# Altium schematic symbol library WR-TBL_Rising Cage Clamp.SchLib: 435 symbols (part 7 of 7)
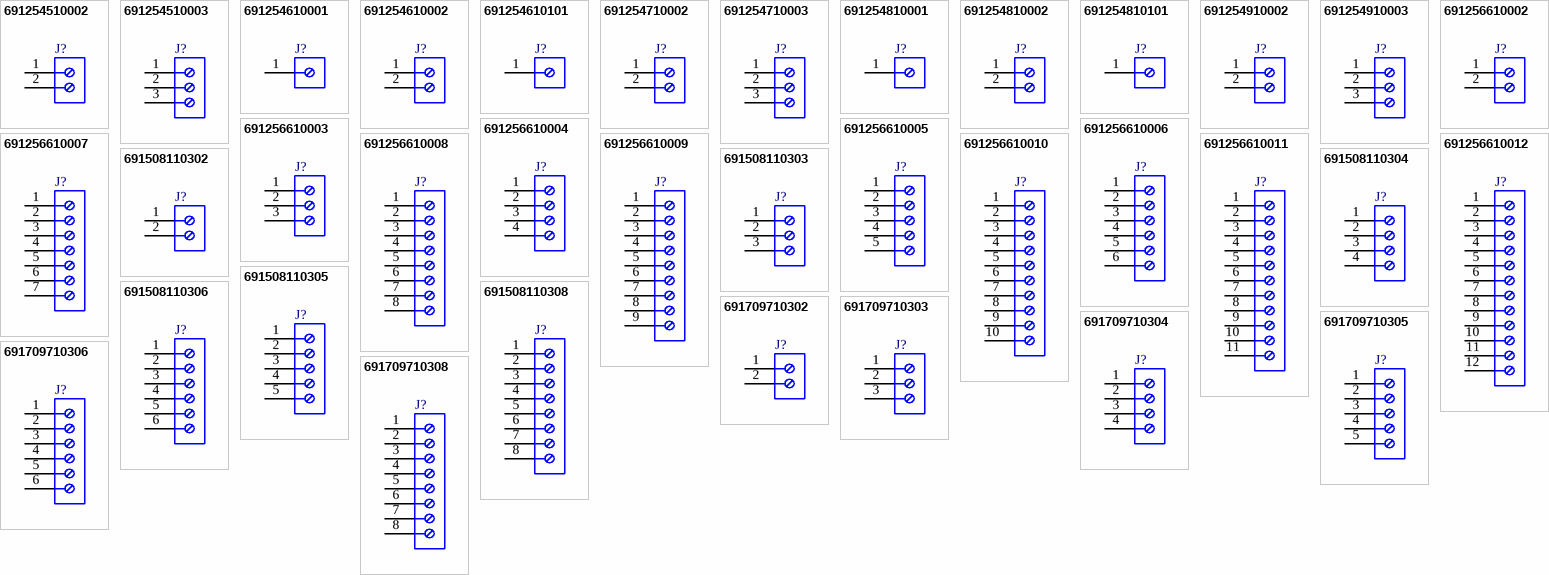
[diagram p16: symbols 691254510002 to 691709710308]

## 691256610003
designator J?
WR-TBL Serie 2566 Horizontal Entry, Rising Cage Clamp, pitch 10.16mm, 3p; Part Number: 691256610003; Compliance: Lead free / RoHS; Modularity: No; PCB/Cable/Panel: PCB; Pin Number: 3; Rated Current [UL]: 40A; Working Voltage [UL]: 300VAC; ComponentLink1Description: Manufacturer; ComponentLink1URL: http://www.we-online.de; ComponentLink2URL: https://katalog.we-online.de/em/datasheet/691256610003.pdf; ComponentLink2Description: Datasheet; Mounting Technology: THT; Packaging: Box; Operating Temperature: -30 to +120degC; Pitch: 10.16mm; Published Date: October 2019; Type: Horizontal; Publisher: Wurth Elektronik; Application: Rising Cage Clamp
footprint 691256610003
pins: 1, 2, 3

## 691256610004
designator J?
WR-TBL Serie 2566 Horizontal Entry, Rising Cage Clamp, pitch 10.16mm, 4p; Part Number: 691256610004; Compliance: Lead free / RoHS; Modularity: No; PCB/Cable/Panel: PCB; Pin Number: 4; Rated Current [UL]: 40A; Working Voltage [UL]: 300VAC; ComponentLink1Description: Manufacturer; ComponentLink1URL: http://www.we-online.de; ComponentLink2URL: https://katalog.we-online.de/em/datasheet/691256610004.pdf; ComponentLink2Description: Datasheet; Mounting Technology: THT; Packaging: Box; Operating Temperature: -30 to +120degC; Pitch: 10.16mm; Published Date: October 2019; Type: Horizontal; Publisher: Wurth Elektronik; Application: Rising Cage Clamp
footprint 691256610004
pins: 1, 2, 3, 4

## 691256610005
designator J?
WR-TBL Serie 2566 Horizontal Entry, Rising Cage Clamp, pitch 10.16mm, 5p; Part Number: 691256610005; Compliance: Lead free / RoHS; Modularity: No; PCB/Cable/Panel: PCB; Pin Number: 5; Rated Current [UL]: 40A; Working Voltage [UL]: 300VAC; ComponentLink1Description: Manufacturer; ComponentLink1URL: http://www.we-online.de; ComponentLink2URL: https://katalog.we-online.de/em/datasheet/691256610005.pdf; ComponentLink2Description: Datasheet; Mounting Technology: THT; Packaging: Box; Operating Temperature: -30 to +120degC; Pitch: 10.16mm; Published Date: October 2019; Type: Horizontal; Publisher: Wurth Elektronik; Application: Rising Cage Clamp
footprint 691256610005
pins: 1, 2, 3, 4, 5

## 691256610006
designator J?
WR-TBL Serie 2566 Horizontal Entry, Rising Cage Clamp, pitch 10.16mm, 6p; Part Number: 691256610006; Compliance: Lead free / RoHS; Modularity: No; PCB/Cable/Panel: PCB; Pin Number: 6; Rated Current [UL]: 40A; Working Voltage [UL]: 300VAC; ComponentLink1Description: Manufacturer; ComponentLink1URL: http://www.we-online.de; ComponentLink2URL: https://katalog.we-online.de/em/datasheet/691256610006.pdf; ComponentLink2Description: Datasheet; Mounting Technology: THT; Packaging: Box; Operating Temperature: -30 to +120degC; Pitch: 10.16mm; Published Date: October 2019; Type: Horizontal; Publisher: Wurth Elektronik; Application: Rising Cage Clamp
footprint 691256610006
pins: 1, 2, 3, 4, 5, 6

## 691256610007
designator J?
WR-TBL Serie 2566 Horizontal Entry, Rising Cage Clamp, pitch 10.16mm, 7p; Part Number: 691256610007; Compliance: Lead free / RoHS; Modularity: No; PCB/Cable/Panel: PCB; Pin Number: 7; Rated Current [UL]: 40A; Working Voltage [UL]: 300VAC; ComponentLink1Description: Manufacturer; ComponentLink1URL: http://www.we-online.de; ComponentLink2URL: https://katalog.we-online.de/em/datasheet/691256610007.pdf; ComponentLink2Description: Datasheet; Mounting Technology: THT; Packaging: Box; Operating Temperature: -30 to +120degC; Pitch: 10.16mm; Published Date: October 2019; Type: Horizontal; Publisher: Wurth Elektronik; Application: Rising Cage Clamp
footprint 691256610007
pins: 1, 2, 3, 4, 5, 6, 7

## 691256610008
designator J?
WR-TBL Serie 2566 Horizontal Entry, Rising Cage Clamp, pitch 10.16mm, 8p; Part Number: 691256610008; Compliance: Lead free / RoHS; Modularity: No; PCB/Cable/Panel: PCB; Pin Number: 8; Rated Current [UL]: 40A; Working Voltage [UL]: 300VAC; ComponentLink1Description: Manufacturer; ComponentLink1URL: http://www.we-online.de; ComponentLink2URL: https://katalog.we-online.de/em/datasheet/691256610008.pdf; ComponentLink2Description: Datasheet; Mounting Technology: THT; Packaging: Box; Operating Temperature: -30 to +120degC; Pitch: 10.16mm; Published Date: October 2019; Type: Horizontal; Publisher: Wurth Elektronik; Application: Rising Cage Clamp
footprint 691256610008
pins: 1, 2, 3, 4, 5, 6, 7, 8

## 691256610009
designator J?
WR-TBL Serie 2566 Horizontal Entry, Rising Cage Clamp, pitch 10.16mm, 9p; Part Number: 691256610009; Compliance: Lead free / RoHS; Modularity: No; PCB/Cable/Panel: PCB; Pin Number: 9; Rated Current [UL]: 40A; Working Voltage [UL]: 300VAC; ComponentLink1Description: Manufacturer; ComponentLink1URL: http://www.we-online.de; ComponentLink2URL: https://katalog.we-online.de/em/datasheet/691256610009.pdf; ComponentLink2Description: Datasheet; Mounting Technology: THT; Packaging: Box; Operating Temperature: -30 to +120degC; Pitch: 10.16mm; Published Date: October 2019; Type: Horizontal; Publisher: Wurth Elektronik; Application: Rising Cage Clamp
footprint 691256610009
pins: 1, 2, 3, 4, 5, 6, 7, 8, 9

## 691256610010
designator J?
WR-TBL Serie 2566 Horizontal Entry, Rising Cage Clamp, pitch 10.16mm, 10p; Part Number: 691256610010; Compliance: Lead free / RoHS; Modularity: No; PCB/Cable/Panel: PCB; Pin Number: 10; Rated Current [UL]: 40A; Working Voltage [UL]: 300VAC; ComponentLink1Description: Manufacturer; ComponentLink1URL: http://www.we-online.de; ComponentLink2URL: https://katalog.we-online.de/em/datasheet/691256610010.pdf; ComponentLink2Description: Datasheet; Mounting Technology: THT; Packaging: Box; Operating Temperature: -30 to +120degC; Pitch: 10.16mm; Published Date: October 2019; Type: Horizontal; Publisher: Wurth Elektronik; Application: Rising Cage Clamp
footprint 691256610010
pins: 1, 2, 3, 4, 5, 6, 7, 8, 9, 10

## 691256610011
designator J?
WR-TBL Serie 2566 Horizontal Entry, Rising Cage Clamp, pitch 10.16mm, 11p; Part Number: 691256610011; Compliance: Lead free / RoHS; Modularity: No; PCB/Cable/Panel: PCB; Pin Number: 11; Rated Current [UL]: 40A; Working Voltage [UL]: 300VAC; ComponentLink1Description: Manufacturer; ComponentLink1URL: http://www.we-online.de; ComponentLink2URL: https://katalog.we-online.de/em/datasheet/691256610011.pdf; ComponentLink2Description: Datasheet; Mounting Technology: THT; Packaging: Box; Operating Temperature: -30 to +120degC; Pitch: 10.16mm; Published Date: October 2019; Type: Horizontal; Publisher: Wurth Elektronik; Application: Rising Cage Clamp
footprint 691256610011
pins: 1, 2, 3, 4, 5, 6, 7, 8, 9, 10, 11

## 691256610012
designator J?
WR-TBL Serie 2566 Horizontal Entry, Rising Cage Clamp, pitch 10.16mm, 12p; Part Number: 691256610012; Compliance: Lead free / RoHS; Modularity: No; PCB/Cable/Panel: PCB; Pin Number: 12; Rated Current [UL]: 40A; Working Voltage [UL]: 300VAC; ComponentLink1Description: Manufacturer; ComponentLink1URL: http://www.we-online.de; ComponentLink2URL: https://katalog.we-online.de/em/datasheet/691256610012.pdf; ComponentLink2Description: Datasheet; Mounting Technology: THT; Packaging: Box; Operating Temperature: -30 to +120degC; Pitch: 10.16mm; Published Date: October 2019; Type: Horizontal; Publisher: Wurth Elektronik; Application: Rising Cage Clamp
footprint 691256610012
pins: 1, 2, 3, 4, 5, 6, 7, 8, 9, 10, 11, 12

## 691508110302
designator J?
WR-TBL Serie 5081 Horizontal Entry SMT, Rising Cage Clamp, pitch 3.5mm, 2p; Part Number: 691508110302; Compliance: RoHS; Modularity: No; PCB/Cable/Panel: PCB; Pin Number: 2; Rated Current [UL]: 10A; Working Voltage [UL]: 300VAC; ComponentLink1Description: Manufacturer; ComponentLink1URL: http://www.we-online.de; ComponentLink2URL: https://katalog.we-online.de/em/datasheet/691508110302.pdf; ComponentLink2Description: Datasheet; Mounting Technology: SMT; Packaging: Tape and Reel; Operating Temperature: -40 to +130degC; Pitch: 3.5mm; Published Date: October 2019; Type: Horizontal; Publisher: Wurth Elektronik; Application: Rising Cage Clamp
footprint 691508110302
pins: 1, 2

## 691508110303
designator J?
WR-TBL Serie 5081 Horizontal Entry SMT, Rising Cage Clamp, pitch 3.5mm, 3p; Part Number: 691508110303; Compliance: RoHS; Modularity: No; PCB/Cable/Panel: PCB; Pin Number: 3; Rated Current [UL]: 10A; Working Voltage [UL]: 300VAC; ComponentLink1Description: Manufacturer; ComponentLink1URL: http://www.we-online.de; ComponentLink2URL: https://katalog.we-online.de/em/datasheet/691508110303.pdf; ComponentLink2Description: Datasheet; Mounting Technology: SMT; Packaging: Tape and Reel; Operating Temperature: -40 to +130degC; Pitch: 3.5mm; Published Date: October 2019; Type: Horizontal; Publisher: Wurth Elektronik; Application: Rising Cage Clamp
footprint 691508110303
pins: 1, 2, 3

## 691508110304
designator J?
WR-TBL Serie 5081 Horizontal Entry SMT, Rising Cage Clamp, pitch 3.5mm, 4p; Part Number: 691508110304; Compliance: RoHS; Modularity: No; PCB/Cable/Panel: PCB; Pin Number: 4; Rated Current [UL]: 10A; Working Voltage [UL]: 300VAC; ComponentLink1Description: Manufacturer; ComponentLink1URL: http://www.we-online.de; ComponentLink2URL: https://katalog.we-online.de/em/datasheet/691508110304.pdf; ComponentLink2Description: Datasheet; Mounting Technology: SMT; Packaging: Tape and Reel; Operating Temperature: -40 to +130degC; Pitch: 3.5mm; Published Date: October 2019; Type: Horizontal; Publisher: Wurth Elektronik; Application: Rising Cage Clamp
footprint 691508110304
pins: 1, 2, 3, 4

## 691508110305
designator J?
WR-TBL Serie 5081 Horizontal Entry SMT, Rising Cage Clamp, pitch 3.5mm, 5p; Part Number: 691508110305; Compliance: RoHS; Modularity: No; PCB/Cable/Panel: PCB; Pin Number: 5; Rated Current [UL]: 10A; Working Voltage [UL]: 300VAC; ComponentLink1Description: Manufacturer; ComponentLink1URL: http://www.we-online.de; ComponentLink2URL: https://katalog.we-online.de/em/datasheet/691508110305.pdf; ComponentLink2Description: Datasheet; Mounting Technology: SMT; Packaging: Tape and Reel; Operating Temperature: -40 to +130degC; Pitch: 3.5mm; Published Date: October 2019; Type: Horizontal; Publisher: Wurth Elektronik; Application: Rising Cage Clamp
footprint 691508110305
pins: 1, 2, 3, 4, 5

## 691508110306
designator J?
WR-TBL Serie 5081 Horizontal Entry SMT, Rising Cage Clamp, pitch 3.5mm, 6p; Part Number: 691508110306; Compliance: RoHS; Modularity: No; PCB/Cable/Panel: PCB; Pin Number: 6; Rated Current [UL]: 10A; Working Voltage [UL]: 300VAC; ComponentLink1Description: Manufacturer; ComponentLink1URL: http://www.we-online.de; ComponentLink2URL: https://katalog.we-online.de/em/datasheet/691508110306.pdf; ComponentLink2Description: Datasheet; Mounting Technology: SMT; Packaging: Tape and Reel; Operating Temperature: -40 to +130degC; Pitch: 3.5mm; Published Date: October 2019; Type: Horizontal; Publisher: Wurth Elektronik; Application: Rising Cage Clamp
footprint 691508110306
pins: 1, 2, 3, 4, 5, 6

## 691508110308
designator J?
WR-TBL Serie 5081 Horizontal Entry SMT, Rising Cage Clamp, pitch 3.5mm, 8p; Part Number: 691508110308; Compliance: RoHS; Modularity: No; PCB/Cable/Panel: PCB; Pin Number: 8; Rated Current [UL]: 10A; Working Voltage [UL]: 300VAC; ComponentLink1Description: Manufacturer; ComponentLink1URL: http://www.we-online.de; ComponentLink2URL: https://katalog.we-online.de/em/datasheet/691508110308.pdf; ComponentLink2Description: Datasheet; Mounting Technology: SMT; Packaging: Tape and Reel; Operating Temperature: -40 to +130degC; Pitch: 3.5mm; Published Date: October 2019; Type: Horizontal; Publisher: Wurth Elektronik; Application: Rising Cage Clamp
footprint 691508110308
pins: 1, 2, 3, 4, 5, 6, 7, 8

## 691709710302
designator J?
WR-TBL Serie 7097 Horizontal Entry SMT, Rising Cage Clamp, pitch 5mm, 2p; Part Number: 691709710302; Compliance: Lead free / RoHS; Modularity: No; PCB/Cable/Panel: PCB; Pin Number: 2; Rated Current [UL]: 6A; Working Voltage [UL]: 300VAC; ComponentLink1Description: Manufacturer; ComponentLink1URL: http://www.we-online.de; ComponentLink2URL: https://katalog.we-online.de/em/datasheet/691709710302.pdf; ComponentLink2Description: Datasheet; Mounting Technology: SMT; Packaging: Tape and Reel; Operating Temperature: -40 to +130degC; Pitch: 5mm; Published Date: October 2019; Type: Horizontal; Publisher: Wurth Elektronik; Application: Rising Cage Clamp
footprint 691709710302
pins: 1, 2

## 691709710303
designator J?
WR-TBL Serie 7097 Horizontal Entry SMT, Rising Cage Clamp, pitch 5mm, 3p; Part Number: 691709710303; Compliance: Lead free / RoHS; Modularity: No; PCB/Cable/Panel: PCB; Pin Number: 3; Rated Current [UL]: 6A; Working Voltage [UL]: 300VAC; ComponentLink1Description: Manufacturer; ComponentLink1URL: http://www.we-online.de; ComponentLink2URL: https://katalog.we-online.de/em/datasheet/691709710303.pdf; ComponentLink2Description: Datasheet; Mounting Technology: SMT; Packaging: Tape and Reel; Operating Temperature: -40 to +130degC; Pitch: 5mm; Published Date: October 2019; Type: Horizontal; Publisher: Wurth Elektronik; Application: Rising Cage Clamp
footprint 691709710303
pins: 1, 2, 3

## 691709710304
designator J?
WR-TBL Serie 7097 Horizontal Entry SMT, Rising Cage Clamp, pitch 5mm, 4p; Part Number: 691709710304; Compliance: Lead free / RoHS; Modularity: No; PCB/Cable/Panel: PCB; Pin Number: 4; Rated Current [UL]: 6A; Working Voltage [UL]: 300VAC; ComponentLink1Description: Manufacturer; ComponentLink1URL: http://www.we-online.de; ComponentLink2URL: https://katalog.we-online.de/em/datasheet/691709710304.pdf; ComponentLink2Description: Datasheet; Mounting Technology: SMT; Packaging: Tape and Reel; Operating Temperature: -40 to +130degC; Pitch: 5mm; Published Date: October 2019; Type: Horizontal; Publisher: Wurth Elektronik; Application: Rising Cage Clamp
footprint 691709710304
pins: 1, 2, 3, 4

## 691709710305
designator J?
WR-TBL Serie 7097 Horizontal Entry SMT, Rising Cage Clamp, pitch 5mm, 5p; Part Number: 691709710305; Compliance: Lead free / RoHS; Modularity: No; PCB/Cable/Panel: PCB; Pin Number: 5; Rated Current [UL]: 6A; Working Voltage [UL]: 300VAC; ComponentLink1Description: Manufacturer; ComponentLink1URL: http://www.we-online.de; ComponentLink2URL: https://katalog.we-online.de/em/datasheet/691709710305.pdf; ComponentLink2Description: Datasheet; Mounting Technology: SMT; Packaging: Tape and Reel; Operating Temperature: -40 to +130degC; Pitch: 5mm; Published Date: October 2019; Type: Horizontal; Publisher: Wurth Elektronik; Application: Rising Cage Clamp
footprint 691709710305
pins: 1, 2, 3, 4, 5

## 691709710306
designator J?
WR-TBL Serie 7097 Horizontal Entry SMT, Rising Cage Clamp, pitch 5mm, 6p; Part Number: 691709710306; Compliance: Lead free / RoHS; Modularity: No; PCB/Cable/Panel: PCB; Pin Number: 6; Rated Current [UL]: 6A; Working Voltage [UL]: 300VAC; ComponentLink1Description: Manufacturer; ComponentLink1URL: http://www.we-online.de; ComponentLink2URL: https://katalog.we-online.de/em/datasheet/691709710306.pdf; ComponentLink2Description: Datasheet; Mounting Technology: SMT; Packaging: Tape and Reel; Operating Temperature: -40 to +130degC; Pitch: 5mm; Published Date: October 2019; Type: Horizontal; Publisher: Wurth Elektronik; Application: Rising Cage Clamp
footprint 691709710306
pins: 1, 2, 3, 4, 5, 6

## 691709710308
designator J?
WR-TBL Serie 7097 Horizontal Entry SMT, Rising Cage Clamp, pitch 5mm, 8p; Part Number: 691709710308; Compliance: Lead free / RoHS; Modularity: No; PCB/Cable/Panel: PCB; Pin Number: 8; Rated Current [UL]: 6A; Working Voltage [UL]: 300VAC; ComponentLink1Description: Manufacturer; ComponentLink1URL: http://www.we-online.de; ComponentLink2URL: https://katalog.we-online.de/em/datasheet/691709710308.pdf; ComponentLink2Description: Datasheet; Mounting Technology: SMT; Packaging: Tape and Reel; Operating Temperature: -40 to +130degC; Pitch: 5mm; Published Date: October 2019; Type: Horizontal; Publisher: Wurth Elektronik; Application: Rising Cage Clamp
footprint 691709710308
pins: 1, 2, 3, 4, 5, 6, 7, 8